# Altium schematic symbol library AP62200WU-7 DC-DC.SchLib: 1 symbol
Pins are listed as number, name and electrical type; pins without a type are passive.

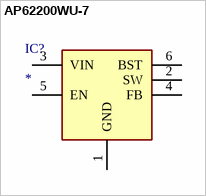
[diagram p0: symbol AP62200WU-7]

## AP62200WU-7
designator IC?
Integrated Circuit; Manufacturer_Name: Diodes Inc.; Manufacturer_Part_Number: AP62200WU-7; Datasheet Link: https://datasheet.datasheetarchive.com/originals/distributors/Datasheets_SAMA/8773719cd56c9c8fb48ffd720a0376ce.pdf; Height: 1mm; Mouser Part Number: 621-AP62200WU-7; Mouser Price/Stock: https://www.mouser.co.uk/ProductDetail/Diodes-Incorporated/AP62200WU-7?qs=P1JMDcb91o6Lrrt3Idazjw%3D%3D; Arrow Part Number: AP62200WU-7; Arrow Price/Stock: https://www.arrow.com/en/products/ap62200wu-7/diodes-incorporated?region=nac
footprint SOT95P280X100-6N
pins: 1 GND, 2 SW, 3 VIN, 4 FB, 5 EN, 6 BST